# EAGLE library part 61901019521 (library Wire-to-Board (rev18a))
WR-WTB 2.54mm Right Angled Locking Header Top Locking, 10 Pins=>Code : Con_WTB_2.54_PCB_THT_61901019521 <http://katalog.we-online.de/media/thumbs2/eican/thb_Con_WTB_2.54_PCB_THT_6190xx19521_pf2.jpg> Details see: http://katalog.we-online.de/en/em/WTB_2_54_MALE_RIGHT_ANGLED_TOP_LOCKING_6190XX19521 Created 2014-06-05, Karrer Zheng 2014 (C) Würth Elektronik
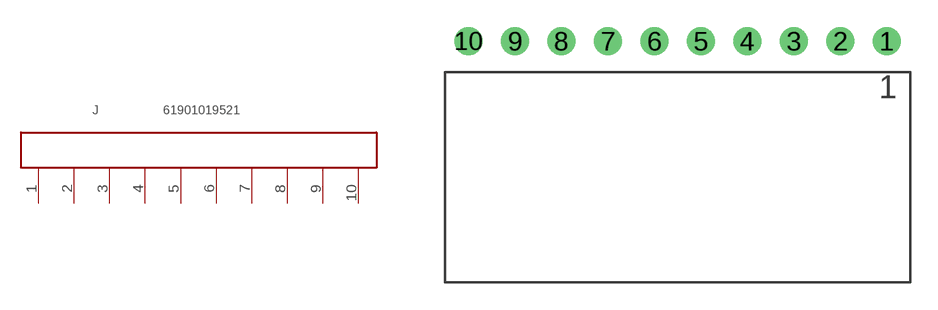
[diagram p12: symbol with the pads of 61901019521; footprint 61901019521]

Designator prefix J

## 61901019521  [61901019521]
1  10  pas
2  9  pas
3  8  pas
4  7  pas
5  6  pas
6  5  pas
7  4  pas
8  3  pas
9  2  pas
10  1  pas

## Footprint 61901019521 (pad centres in mm)
WR-WTB 2.54mm Right Angled Locking Header Top Locking, 10 Pins
drill 1: 1 11.43,0; 2 8.89,0; 3 6.35,0; 4 3.81,0; 5 1.27,0; 6 -1.27,0; 7 -3.81,0; 8 -6.35,0; 9 -8.89,0; 10 -11.43,0